# EAGLE library part SOCKET_10 (library HAVRM)
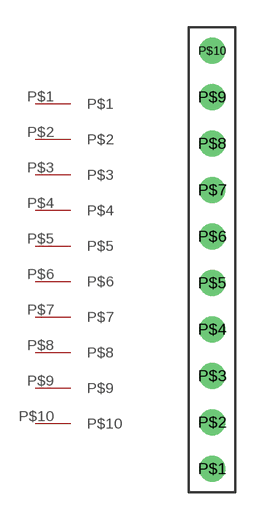
[diagram p5: symbol with the pads of SOCKET_10; footprint SOCKET_10]

Designator prefix -

## SOCKET_10  [SOCKET_10]
P$1  P$1
P$2  P$2
P$3  P$3
P$4  P$4
P$5  P$5
P$6  P$6
P$7  P$7
P$8  P$8
P$9  P$9
P$10  P$10

## Footprint SOCKET_10 (pad centres in mm)
drill 0.9: P$1 0,0; P$2 0,2.54; P$3 0,5.08; P$4 0,7.62; P$5 0,10.16; P$6 0,12.7; P$7 0,15.24; P$8 0,17.78; P$9 0,20.32; P$10 0,22.86